# Altium footprint library USB4130-GF-C.PcbLib: 1 footprints
Each footprint in its own frame and in the unit in brackets; x right, y up, seen from the top. Pads: shape width x height; smd on the part's side, far side on the other; paste and mask are expansions set on the pad; w line width, h text height; cw(c..) or ccw(c..) is an arc to the next point about the centre after c.
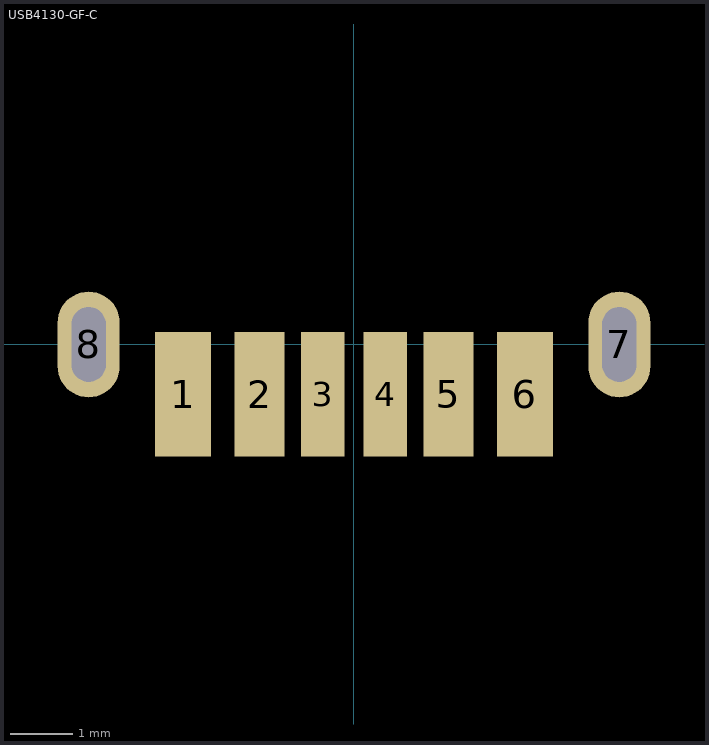
[diagram p0: the footprint, top view; thin cyan lines are the x and y axes]

## USB4130-GF-C [mm]
pads (8):
  rect 0.9x2 smd: 1(-2.75,-0.8) 6(2.75,-0.8)
  rect 0.8x2 smd: 2(-1.52,-0.8) 5(1.52,-0.8)
  rect 0.7x2 smd: 3(-0.5,-0.8) 4(0.5,-0.8)
  oval 1x1.7 hole 0.55 slot 1.2 at 90 deg: 7(4.27,0) 8(-4.27,0)
3D body "USB4130-GF-C.stp": height 6.5, standoff -1.2, extent -4.422,-1.499 4.318,1.651